# Altium schematic symbol library GSM.SchLib: 1 symbol
Pins are listed as number, name and electrical type; pins without a type are passive.

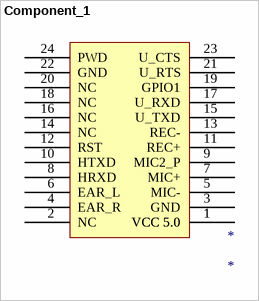
[diagram p0: symbol Component_1]

## Component_1
designator *
pins: 1 VCC 5.0, 1 VCC 5.0, 2 NC, 3 GND, 4 EAR_R, 5 MIC-, 6 EAR_L, 7 MIC+, 8 HRXD, 9 MIC2_P, 10 HTXD, 11 REC+, 12 RST, 13 REC-, 14 NC, 15 U_TXD, 16 NC, 17 U_RXD, 18 NC, 19 GPIO1, 20 NC, 21 U_RTS, 22 GND, 23 U_CTS, 24 PWD